# Altium schematic symbol library DCP020505.SchLib: 1 symbol
Pins are listed as number, name and electrical type; pins without a type are passive.

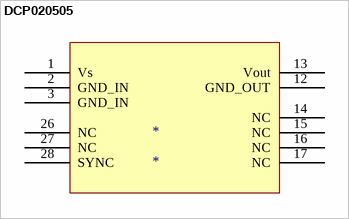
[diagram p0: symbol DCP020505]

## DCP020505
designator *
pins: 1 Vs, 2 GND_IN, 3 GND_IN, 12 GND_OUT, 13 Vout, 14 NC, 15 NC, 16 NC, 17 NC, 26 NC, 27 NC, 28 SYNC